# EAGLE library part BDCN-10-25+ (library minicircuits)
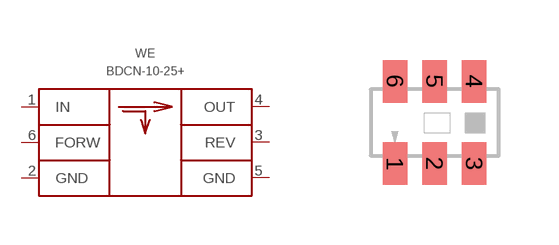
[diagram p2: symbol with the pads of FV1206-1; footprint FV1206-1]

Designator prefix WE

## BDCN-10-25+  [FV1206-1]
1  IN  pas
2  GND  pwr
3  REV  pas
4  OUT  pas
5  GND  pwr
6  FORW  pas

## Footprint FV1206-1 (pad centres in mm)
smd 0.61 x 1.067: 1 -0.991,-1.016; 2 0,-1.016; 3 0.991,-1.016; 4 0.991,1.041; 5 0,1.041; 6 -0.991,1.041